# Altium footprint library SRD-05VDC-SL-C.PcbLib: 1 footprints
Each footprint in its own frame and in the unit in brackets; x right, y up, seen from the top. Pads: shape width x height; smd on the part's side, far side on the other; paste and mask are expansions set on the pad; w line width, h text height; cw(c..) or ccw(c..) is an arc to the next point about the centre after c.
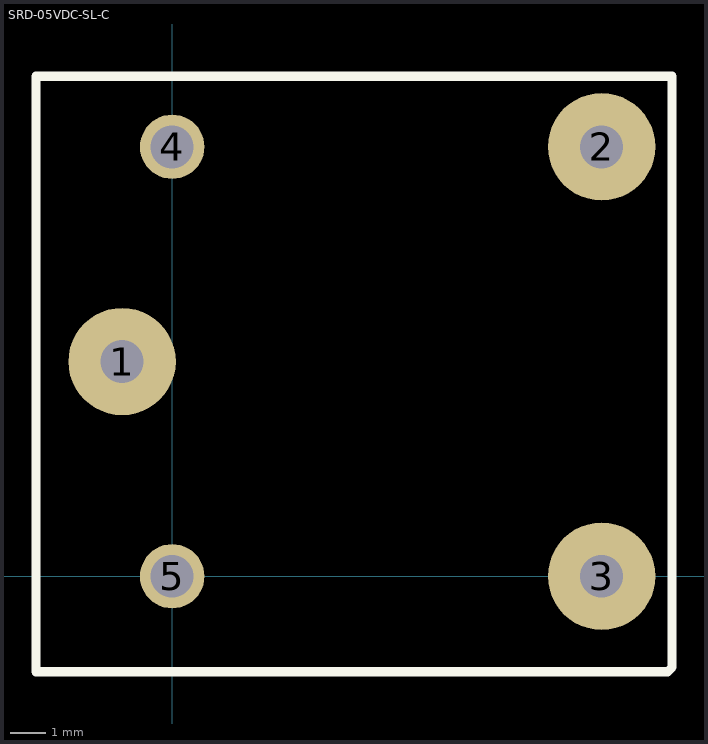
[diagram p0: the footprint, top view; thin cyan lines are the x and y axes]

## SRD-05VDC-SL-C [mm]
height 15
pads (5):
  round 3 hole 1.2: 1(-1.4,6) 2(12,12) 3(12,0)
  round 1.8 hole 1.2: 4(0,12) 5(0,0)
Top Overlay:
  lines w0.254: -3.81,-2.667 13.843,-2.667 13.97,-2.54 13.97,13.97 -3.81,13.97 -3.81,-2.667